# Altium schematic symbol library main board fo stk_1.SCHLIB: 87 symbols
Pins are listed as number, name and electrical type; pins without a type are passive.

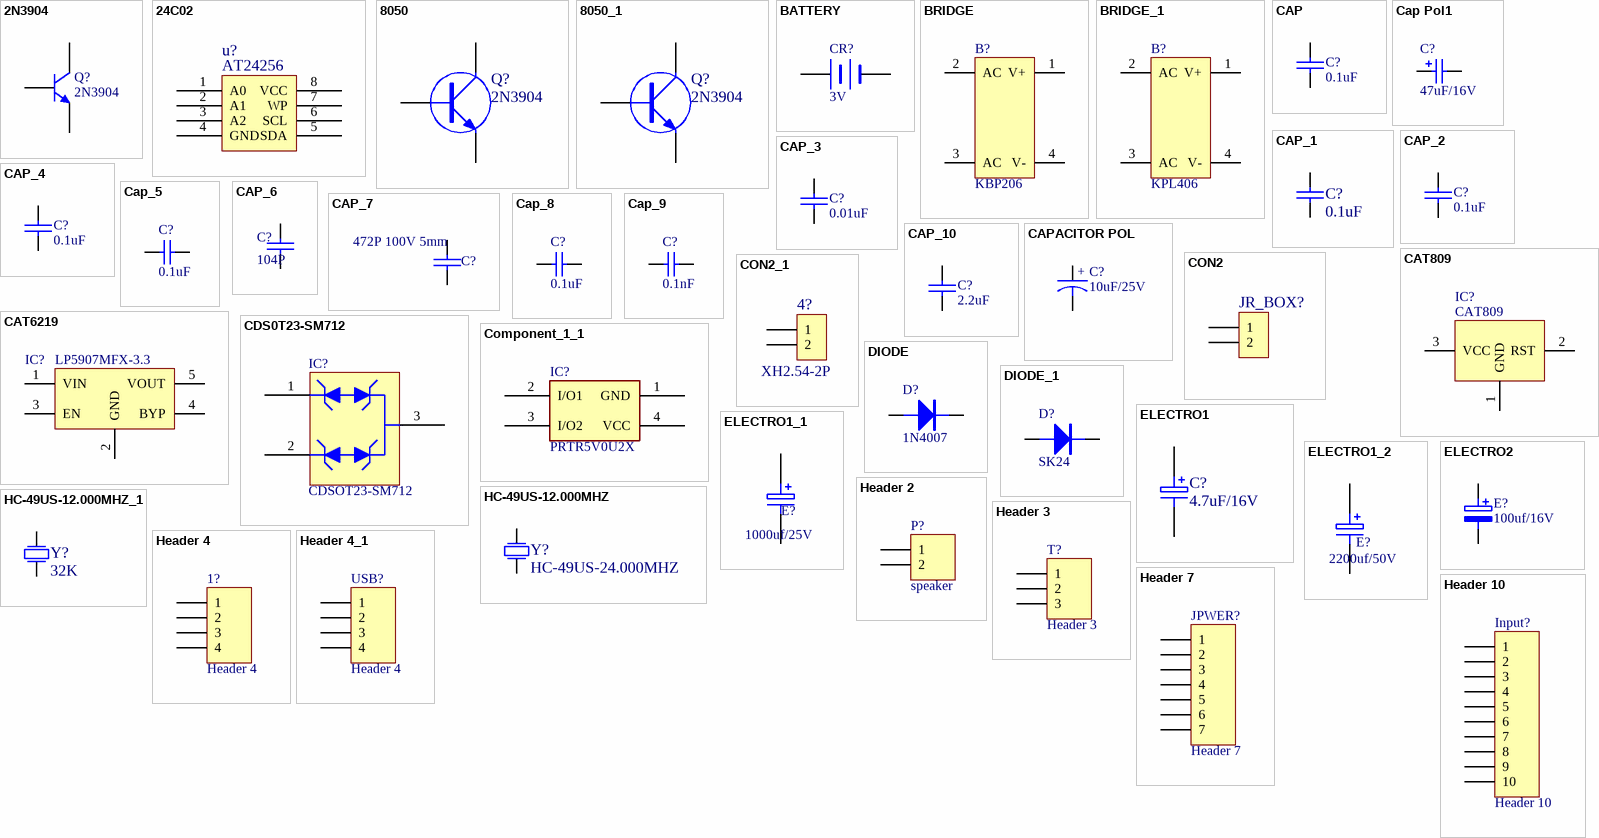
[diagram p0: symbols 2N3904 to Header 10]

## 2N3904
designator Q?
NPN General Purpose Amplifier; Published: 8-Jun-2000; LatestRevisionDate: 15-Jan-2003; LatestRevisionNote: PCB Footprint 'BCY-W3/D4.7' replaced; DatasheetVersion: 1997; PackageVersion: Sep-1998; PackageReference: TO-92A; Publisher: Altium Limited; PackageDescription: TO, Flat Index; 3 In-Line, Axial Leads; Body Dia. 4.5mm; Leads 0.51 x 0.48 mm (max); ComponentLink1Description: Manufacturer Link; ComponentLink1URL: http://www.fairchildsemi.com/; ComponentLink2Description: Datasheet; ComponentLink2URL: http://www.fairchildsemi.com/ds/2N%2F2N3904.pdf
simulation model 2N3904 (NPN)
signal-integrity model 2N3904
footprint SOT-23
pins: 1 B, 2 E, 3 C

## 24C02
designator u?, comment AT24256
footprint SO-8
pins: 1 A0, 2 A1, 3 A2, 4 GND, 5 SDA, 6 SCL, 7 WP, 8 VCC

## 8050
designator Q?, comment 2N3904
footprint TO92BB
footprint SOT-23
pins: 1 B, 2 E, 3 C

## 8050_1
designator Q?, comment 2N3904
footprint SOT-23
pins: 1 B, 2 E, 3 C

## BATTERY
designator CR?, comment 3V
Battery
footprint BATT
footprint BATT
pins: 1 +, 2 -
2 alternate drawings of the same symbol

## BRIDGE
designator B?, comment KBP206
Diode Bridge
footprint KBP206
pins: 1 V+, 2 AC, 3 AC, 4 V-

## BRIDGE_1
designator B?, comment KPL406
Diode Bridge
footprint KPL406
pins: 1 V+, 2 AC, 3 AC, 4 V-

## CAP
designator C?, comment 0.1uF
Capacitor
footprint 1206
footprint 0603C
pins: 1, 2

## Cap Pol1
designator C?, comment 47uF/16V
Tantalum Capacitor; Published: 8-Jun-2000; LatestRevisionDate: 17-Jul-2002; LatestRevisionNote: Re-released for DXP Platform.; PackageReference: RB7.6-15; Publisher: Altium Limited; PackageDescription: Polarized Capacitor (Radial); 2 Leads; Value: 47uF/16V
simulation model CAP (Capacitor)
signal-integrity model Cap Pol
footprint A3216
pins: 1, 2
1 alternate drawing of the same symbol

## CAP_1
designator C?, comment 0.1uF
Capacitor
footprint 1206
footprint 0603C
footprint 0603C
pins: 1, 2

## CAP_2
designator C?, comment 0.1uF
Capacitor
footprint 0805
footprint 0603C
pins: 1, 2
2 alternate drawings of the same symbol

## CAP_3
designator C?, comment 0.01uF
Capacitor
footprint RESC0603(1608)_M (Chip Resistor, Body 1.6x0.8mm, IPC Low Density)
footprint 0603C
pins: 1, 2

## CAP_4
designator C?, comment 0.1uF
Capacitor
footprint 0603C
pins: 1, 2

## Cap_5
designator C?, comment 0.1uF
Capacitor; Published: 8-Jun-2000; LatestRevisionDate: 17-Jul-2002; LatestRevisionNote: Re-released for DXP Platform.; PackageReference: RAD-0.3; Publisher: Altium Limited; PackageDescription: Radial Cap, Thru-Hole; 2 Leads; 0.3 in Pin Spacing; Value: 0.1uF
footprint RAD-0.3 (Radial Cap, Thru-Hole; 2 Leads; 0.3 in Pin Spacing)
simulation model CAP (Capacitor)
signal-integrity model Cap
footprint 0603C
pins: 1, 2

## CAP_6
designator C?, comment 104P
Capacitor; Value: 104P
footprint 0805C
pins: 1, 2

## CAP_7
designator C?, comment 472P 100V 5mm
CBB Capacitor; Value: 472P 100V 5mm
footprint RAD0.3
footprint RAD0.3
pins: 1, 2

## Cap_8
designator C?, comment 0.1uF
Capacitor; Published: 8-Jun-2000; LatestRevisionDate: 17-Jul-2002; LatestRevisionNote: Re-released for DXP Platform.; PackageReference: RAD-0.3; Publisher: Altium Limited; PackageDescription: Radial Cap, Thru-Hole; 2 Leads; 0.3 in Pin Spacing; Value: 0.1uF
footprint RAD-0.3 (Radial Cap, Thru-Hole; 2 Leads; 0.3 in Pin Spacing)
simulation model CAP (Capacitor)
signal-integrity model Cap
footprint 0603C
footprint 0603C
pins: 1, 2

## Cap_9
designator C?, comment 0.1nF
Capacitor; Published: 8-Jun-2000; LatestRevisionDate: 17-Jul-2002; LatestRevisionNote: Re-released for DXP Platform.; PackageReference: RAD-0.3; Publisher: Altium Limited; PackageDescription: Radial Cap, Thru-Hole; 2 Leads; 0.3 in Pin Spacing; Value: 0.1nF
simulation model CAP (Capacitor)
signal-integrity model Cap
footprint 0603C
pins: 1, 2

## CAP_10
designator C?, comment 2.2uF
Capacitor
footprint 0805
footprint 0603C
pins: 1, 2

## CAPACITOR POL
designator C?, comment 10uF/25V
Capacitor
footprint 3528
pins: 1, 2
2 alternate drawings of the same symbol
text: +

## CAT809
designator IC?
footprint SOT-23
pins: 1 GND, 2 RST, 3 VCC
2 alternate drawings of the same symbol

## CAT6219
designator IC?, comment LP5907MFX-3.3
Connector
footprint SOT-23-5
pins: 1 VIN, 2 GND, 3 EN, 4 BYP, 5 VOUT
2 alternate drawings of the same symbol

## CDS0T23-SM712
designator IC?, comment CDSOT23-SM712
footprint SOT23
pins: 1, 2, 3

## Component_1_1
designator IC?, comment PRTR5V0U2X
footprint SOT-143B
pins: 1 GND, 2 I/O1, 3 I/O2, 4 VCC
2 alternate drawings of the same symbol

## CON2
designator JR_BOX?
Connector
footprint 950-02V
footprint DG142V-5.08-2P
pins: 1, 2

## CON2_1
designator 4?, comment XH2.54-2P
Connector
footprint DG142V-5.08-2P
pins: 1, 2

## DIODE
designator D?, comment 1N4007
Diode
footprint DO-213AB
pins: 1 A, 2 K

## DIODE_1
designator D?, comment SK24
Diode
footprint 1N4001
pins: 1 A, 2 K

## ELECTRO1
designator C?, comment 4.7uF/16V
Electrolytic Capacitor
footprint 3528
pins: 1, 2

## ELECTRO1_1
designator E?, comment 1000uf/25V
Electrolytic Capacitor; Value: 1000uf/25V
footprint RB7.6-15 (Polarized Capacitor (Radial); 2 Leads)
pins: 1, 2

## ELECTRO1_2
designator E?, comment 2200uf/50V
Electrolytic Capacitor; Value: 2200uf/50V
footprint EC5.08-13.5
footprint RB7.6-15 (Polarized Capacitor (Radial); 2 Leads)
pins: 1, 2

## ELECTRO2
designator E?, comment 100uf/16V
Tantalum capacitor; Value: 100uf/16V
footprint E-BIP-P4/D10
footprint 3528
pins: 1, 2
2 alternate drawings of the same symbol

## HC-49US-12.000MHZ
designator Y?, comment HC-49US-24.000MHZ
Crystal Oscillator
simulation model HC-49US-12.000MHZ (SUBCKT)
footprint XTAL3
pins: 1 P1, 2 P2

## HC-49US-12.000MHZ_1
designator Y?, comment 32K
Crystal Oscillator
simulation model HC-49US-12.000MHZ (SUBCKT)
footprint XTAL6
pins: 1 P1, 2 P2

## Header 2
designator P?, comment speaker
Header, 2-Pin; LatestRevisionDate: 17-Jul-2002; LatestRevisionNote: Re-released for DXP Platform.; Publisher: Altium Limited
footprint XH2.54-2P
pins: 1, 2

## Header 3
designator T?
Header, 3-Pin; LatestRevisionDate: 17-Jul-2002; LatestRevisionNote: Re-released for DXP Platform.; Publisher: Altium Limited
footprint DG141V-2.54-3P
signal-integrity model Connector
pins: 1, 2, 3

## Header 4
designator 1?
Header, 4-Pin; LatestRevisionDate: 17-Jul-2002; LatestRevisionNote: Re-released for DXP Platform.; Publisher: Altium Limited
footprint HDR1X4 (Connector; Header; 4 Position)
signal-integrity model Connector
footprint XH2.54-4P
pins: 1, 2, 3, 4

## Header 4_1
designator USB?, comment Header 4
USB-A母口; LatestRevisionDate: 17-Jul-2002; LatestRevisionNote: Re-released for DXP Platform.; Publisher: Altium Limited
footprint HDR1X4 (Connector; Header; 4 Position)
signal-integrity model Connector
footprint F-USBA
pins: 1, 2, 3, 4

## Header 7
designator JPWER?
Header, 7-Pin; LatestRevisionDate: 17-Jul-2002; LatestRevisionNote: Re-released for DXP Platform.; Publisher: Altium Limited
footprint HDR1X7 (Connector; Header; 7 Position)
signal-integrity model Connector
pins: 1, 2, 3, 4, 5, 6, 7

## Header 10
designator Input?
Header, 10-Pin; LatestRevisionDate: 17-Jul-2002; LatestRevisionNote: Re-released for DXP Platform.; Publisher: Altium Limited
footprint DG142V-5.08-10P
signal-integrity model Connector
pins: 1, 2, 3, 4, 5, 6, 7, 8, 9, 10

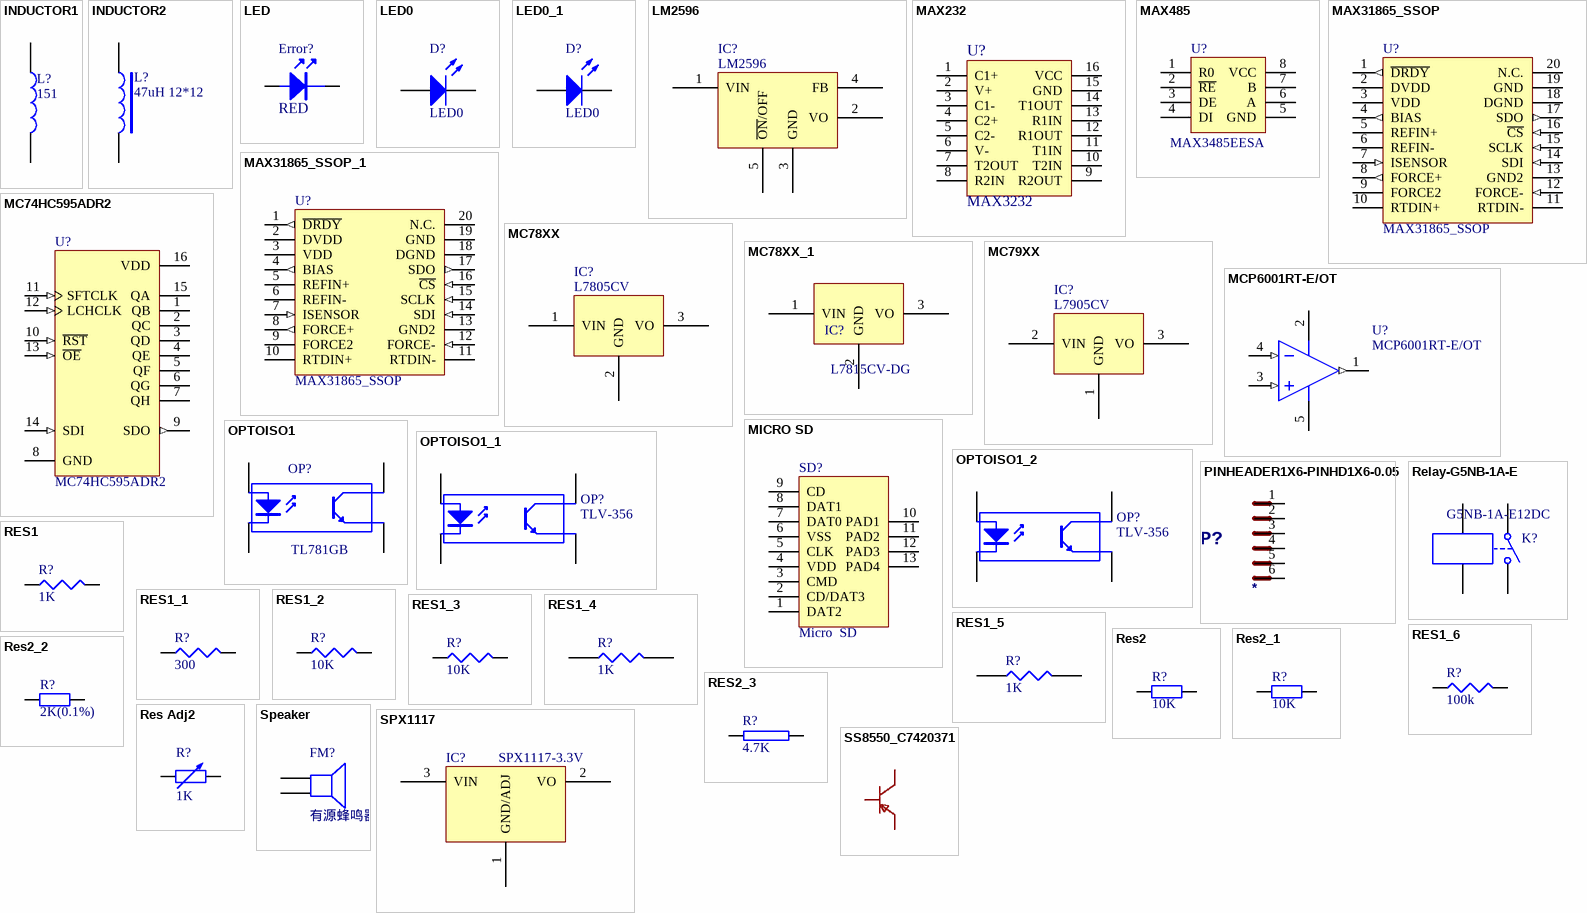
[diagram p1: symbols INDUCTOR1 to SS8550_C7420371]

## INDUCTOR1
designator L?, comment 151
footprint 3528
pins: 1, 2

## INDUCTOR2
designator L?  value 47uH 12*12  (hidden comment: INDUCTOR2)
贴片功率电感
footprint L47UH
pins: 1, 2

## LED
designator Error?, comment RED
footprint SMDLED
pins: A 1, K 2

## LED0
designator D?
Typical INFRARED GaAs LED; Published: 8-Jun-2000; LatestRevisionDate: 08-Jul-2005; LatestRevisionNote: Mech Layer 1 removed.; PackageReference: LED-0; Publisher: Altium Limited; PackageDescription: LED; 2 Leads
footprint LED-0 (LED; 2 Leads)
simulation model LED0 (Diode)
footprint D0805 (1/8W)
footprint D0603
pins: 1 A, 2 K

## LED0_1
designator D?, comment LED0
Typical INFRARED GaAs LED; Published: 8-Jun-2000; LatestRevisionDate: 08-Jul-2005; LatestRevisionNote: Mech Layer 1 removed.; PackageReference: LED-0; Publisher: Altium Limited; PackageDescription: LED; 2 Leads
footprint LED-0 (LED; 2 Leads)
simulation model LED0 (Diode)
footprint D0805 (1/8W)
pins: 1 A, 2 K

## LM2596
designator IC?
footprint LM2596
pins: 1 VIN, 2 VO, 3 GND, 4 FB, 5 ~{ON}/OFF

## MAX232
designator U?, comment MAX3232
footprint DIP-16
footprint SO16
pins: 1 C1+, 2 V+, 3 C1-, 4 C2+, 5 C2-, 6 V-, 7 T2OUT, 8 R2IN, 9 R2OUT, 10 T2IN, 11 T1IN, 12 R1OUT, 13 R1IN, 14 T1OUT, 15 GND, 16 VCC

## MAX485
designator U?, comment MAX3485EESA
footprint SO-8
pins: 1 R0, 2 ~{RE}, 3 DE, 4 DI, 5 GND, 6 A, 7 B, 8 VCC

## MAX31865_SSOP
designator U?
footprint SSOP20 (SSOP; 20 Leads; Body Width 5.3 mm; Pitch 0.65 mm)
pins: 1 ~{DRDY} (out), 2 DVDD, 3 VDD, 4 BIAS (out), 5 REFIN+, 6 REFIN-, 7 ISENSOR (in), 8 FORCE+ (out), 9 FORCE2, 10 RTDIN+, 11 RTDIN-, 12 FORCE- (in), 13 GND2, 14 SDI (in), 15 SCLK (in), 16 ~{CS} (in), 17 SDO (out), 18 DGND, 19 GND, 20 N.C.

## MAX31865_SSOP_1
designator U?, comment MAX31865_SSOP
footprint SOT-5LEAD
footprint SSOP20
pins: 1 ~{DRDY} (out), 2 DVDD, 3 VDD, 4 BIAS (out), 5 REFIN+, 6 REFIN-, 7 ISENSOR (in), 8 FORCE+ (out), 9 FORCE2, 10 RTDIN+, 11 RTDIN-, 12 FORCE- (in), 13 GND2, 14 SDI (in), 15 SCLK (in), 16 ~{CS} (in), 17 SDO (out), 18 DGND, 19 GND, 20 N.C.

## MC74HC595ADR2
designator U?
8-Bit Serial-Input/Serial or Prallel-Output Shift Register with Latched 3-State Outputs; Published: 15-Apr-2002; LatestRevisionDate: 13-Apr-2006; LatestRevisionNote: IPC-7351 Footprint Added.; DatasheetVersion: Mar-2000; PackageVersion: Oct-1999; PackageReference: 751B-05; Publisher: Altium Limited; PackageDescription: 16-Pin Small Outline Integrated Circuit 1.27 mm Pitch; Code_JEDEC: MS-012-AC; Code_IPC: SOIC127P600-16; ComponentLink1Description: Manufacturer Link; ComponentLink1URL: http://www.onsemi.com/; ComponentLink2Description: Datasheet; ComponentLink2URL: http://www.onsemi.com/pub/Collateral/MC74HC595A-D.PDF
footprint 751B-05_N (SOIC, 16-Leads, Body 9.9x3.9mm, Pitch 1.27mm, IPC Medium Density)
footprint 751B-05_L (SOIC, 16-Leads, Body 9.9x3.9mm, Pitch 1.27mm, IPC High Density)
footprint 751B-05_M (SOIC, 16-Leads, Body 9.9x3.9mm, Pitch 1.27mm, IPC Low Density)
signal-integrity model MC74HC595ADR2
pins: 1 QB (hiz), 2 QC (hiz), 3 QD (hiz), 4 QE (hiz), 5 QF (hiz), 6 QG (hiz), 7 QH (hiz), 8 GND (power), 9 SDO (out), 10 ~{RST} (in), 11 SFTCLK (in), 12 LCHCLK (in), 13 ~{OE} (in), 14 SDI (in), 15 QA (hiz), 16 VDD (power)

## MC78XX
designator IC?, comment L7805CV
footprint L7805CV
pins: 1 VIN, 2 GND, 3 VO

## MC78XX_1
designator IC?, comment L7815CV-DG
footprint L7815CV-DG
pins: 1 VIN, 2 GND, 3 VO

## MC79XX
designator IC?, comment L7905CV
footprint L7905CV
pins: 1 GND, 2 VIN, 3 VO

## MCP6001RT-E/OT
designator U?
1 MHz, Low-Power Operational Amplifier, 5-Pin SOT-23, Extended Temperature, Tape and Reel; FirstPublished: 29-Jan-2009; LatestRevisionDate: 02-Dec-2009; LatestRevisionNote: Updated to datasheet revision J, Nov-2009; DatasheetVersion: revJ, Nov-2009; PackageVersion: revBB, Aug-2009; PackageReference: SOT-23-OT5; Publisher: Altium Limited; PackageDescription: 5-Lead Plastic Small Outline Transistor (OT) [SOT-23]; Supplier 1: Digi-Key; Supplier Part Number 1: MCP6001RT-E/OTTR-ND; Supplier 2: Digi-Key; Supplier Part Number 2: MCP6001RT-E/OTCT-ND; Supplier 3: Digi-Key; Supplier Part Number 3: MCP6001RT-E/OTDKR-ND; Supplier 4: Newark; Supplier Part Number 4: 88H9850; Code_IPC: SOT23-5; ComponentLink1Description: Datasheet; ComponentLink1URL: http://ww1.microchip.com/downloads/en/DeviceDoc/21733j.pdf; ComponentLink2Description: Packaging Specification; ComponentLink2URL: http://www.microchip.com/stellent/groups/techpub_sg/documents/packagingspec/en012702.pdf; ComponentLink3Description: Microchip.com Home; ComponentLink3URL: http://www.microchip.com/
footprint SOT-23-OT5_N (SOT23, 5-Leads, Body 2.9x1.6mm, Pitch 0.95mm, Lead Span 2.7mm, IPC Medium Density)
footprint SOT-23-OT5_L (SOT23, 5-Leads, Body 2.9x1.6mm, Pitch 0.95mm, Lead Span 2.7mm, IPC High Density)
footprint SOT-23-OT5_M (SOT23, 5-Leads, Body 2.9x1.6mm, Pitch 0.95mm, Lead Span 2.7mm, IPC Low Density)
pins: 1 VOUT (out), 2 VDD (power), 3 VIN+ (in), 4 VIN- (in), 5 VSS (power)

## MICRO SD
designator SD?, comment Micro  SD
footprint MICRO SD
pins: 1 DAT2, 2 CD/DAT3, 3 CMD, 4 VDD, 5 CLK, 6 VSS, 7 DAT0, 8 DAT1, 9 CD, 10 PAD1, 11 PAD2, 12 PAD3, 13 PAD4
2 alternate drawings of the same symbol

## OPTOISO1
designator OP?, comment TL781GB
Optoisolator
footprint EL-817
footprint TLV-356
pins: 1 A, 2 K, 3 E, 4 C

## OPTOISO1_1
designator OP?, comment TLV-356
Optoisolator
footprint DIP-4
footprint EL-817
footprint TLV-356
pins: 1 A, 2 K, 3 E, 4 C

## OPTOISO1_2
designator OP?, comment TLV-356
Optoisolator
footprint DIP-4
footprint TLV-356
pins: 1 A, 2 K, 3 E, 4 C

## PINHEADER1X6-PINHD1X6-0.05
designator P?  (value not drawn)
Pinheader 1x6; NAME: *
footprint XH2.54-6P
pins: 1, 2, 3, 4, 5, 6

## Relay-G5NB-1A-E
designator K?, comment G5NB-1A-E12DC
Single-Pole Single-Throw Relay; Published: 24-Mar-1999; LatestRevisionDate: 17-Jul-2002; LatestRevisionNote: Re-released for DXP Platform.; PackageReference: MODULE4; Publisher: Altium Limited
simulation model SPSTRELAY (Spice Subcircuit)
footprint JQC-3FF
footprint G5NB-1A-E
pins: 1, 2, 3, 4

## RES1
designator R?, comment 1K
footprint 1206
footprint 0603R
pins: 1, 2

## RES1_1
designator R?, comment 300
footprint 1206
footprint 0805R
pins: 1, 2

## RES1_2
designator R?, comment 10K
footprint 0805
footprint 0603C
footprint 0603R
pins: 1, 2
2 alternate drawings of the same symbol

## RES1_3
designator R?, comment 10K
footprint 0603R
pins: 1, 2

## RES1_4
designator R?, comment 1K
footprint RESC0603(1608)_M (Chip Resistor, Body 1.6x0.8mm, IPC Low Density)
footprint 0603R
pins: 1, 2

## RES1_5
designator R?, comment 1K
footprint 0603R
pins: 1, 2

## RES1_6
designator R?, comment 100k
footprint CAPC0603(1608)100_M
footprint 0603R
pins: 1, 2

## Res2
designator R?, comment 10K
Resistor; Published: 8-Jun-2000; LatestRevisionDate: 17-Jul-2002; LatestRevisionNote: Re-released for DXP Platform.; PackageReference: AXIAL-0.4; Publisher: Altium Limited; PackageDescription: Axial Device, Thru-Hole; 2 Leads; 0.4 in Pin Spacing; Value: 10K
simulation model RESISTOR (Resistor)
signal-integrity model Res
footprint R1/4-H
footprint 0603R
pins: 1, 2

## Res2_1
designator R?, comment 10K
Resistor; Published: 8-Jun-2000; LatestRevisionDate: 17-Jul-2002; LatestRevisionNote: Re-released for DXP Platform.; PackageReference: AXIAL-0.4; Publisher: Altium Limited; PackageDescription: Axial Device, Thru-Hole; 2 Leads; 0.4 in Pin Spacing; Value: 10K
footprint AXIAL-0.4 (Axial Device, Thru-Hole; 2 Leads; 0.4 in Pin Spacing)
simulation model RESISTOR (Resistor)
signal-integrity model Res
footprint R0603 (1/10W)
footprint 0603R
pins: 1, 2

## Res2_2
designator R?, comment 2K(0.1%)
Resistor; Published: 8-Jun-2000; LatestRevisionDate: 17-Jul-2002; LatestRevisionNote: Re-released for DXP Platform.; PackageReference: AXIAL-0.4; Publisher: Altium Limited; Value: 2K(0.1%)
footprint AXIAL-0.4 (Resistor; 2 Leads)
simulation model RESISTOR (Resistor)
signal-integrity model Res
footprint 0603R
pins: 1, 2

## RES2_3
designator R?, comment 4.7K
footprint 0805R
pins: 1, 2

## Res Adj2
designator R?, comment 1K
DG141V-2.54-2P; Set Position: 0.5; Published: 8-Jun-2000; LatestRevisionDate: 17-Jul-2002; LatestRevisionNote: Re-released for DXP Platform.; PackageReference: AXIAL-0.6; Publisher: Altium Limited; PackageDescription: Axial Device, Thru-Hole; 2 Leads; 0.6 in Pin Spacing; Value: 1K
simulation model VRES (Variable Resistor)
signal-integrity model Res Adj
footprint XH2.54-2P
pins: 1, 2

## Speaker
designator FM?, comment 有源蜂鸣器
Loudspeaker; value: 3.3V 12*9.5; Published: *; Manufacturer: *
footprint SPK
footprint SPK
pins: 1, 2
2 alternate drawings of the same symbol

## SPX1117
designator IC?, comment SPX1117-3.3V
footprint SOT223
pins: 1 GND/ADJ, 2 VO, 3 VIN

## SS8550_C7420371
designator Q??, comment SS8550  (value not drawn)
Manufacturer: 宏迦橙; Symbol: SS8550_C7420371; Add into BOM: yes; Transistor Type: PNP; Collector Current (Ic): 1.5A; Collector-Emitter Breakdown Voltage (Vceo): 25V; Power Dissipation (Pd): 300mW; DC Current Gain (hFE@Ic,Vce): 120@100mA,1.0V; Transition Frequency (fT): 100MHz; Collector Cut-Off Current (Icbo): 100nA; Collector-Emitter Saturation Voltage (VCE(sat)@Ic,Ib): 500mV@800mA,80mA; Device: SS8550_C7420371; LCSC Part Name: 耐压:25V 电流:1.5A PNP H档 200-350; Supplier Part: C7420371; Manufacturer Part: SS8550; Supplier Footprint: SOT-23; JLCPCB Part Class: Extended Part; Datasheet: https://atta.szlcsc.com/upload/public/pdf/source/20231222/5BDA6DBF3A79C59009F81F0EEE6F8969.pdf; Supplier: LCSC; Convert to PCB: yes; Operating Temperature: -55℃~+150℃
footprint SOT23
3D model SOT-23-3P_L2.9-W1.3-H1.0-LS2.4-P0.95
pins: 1 B, 2 E, 3 C

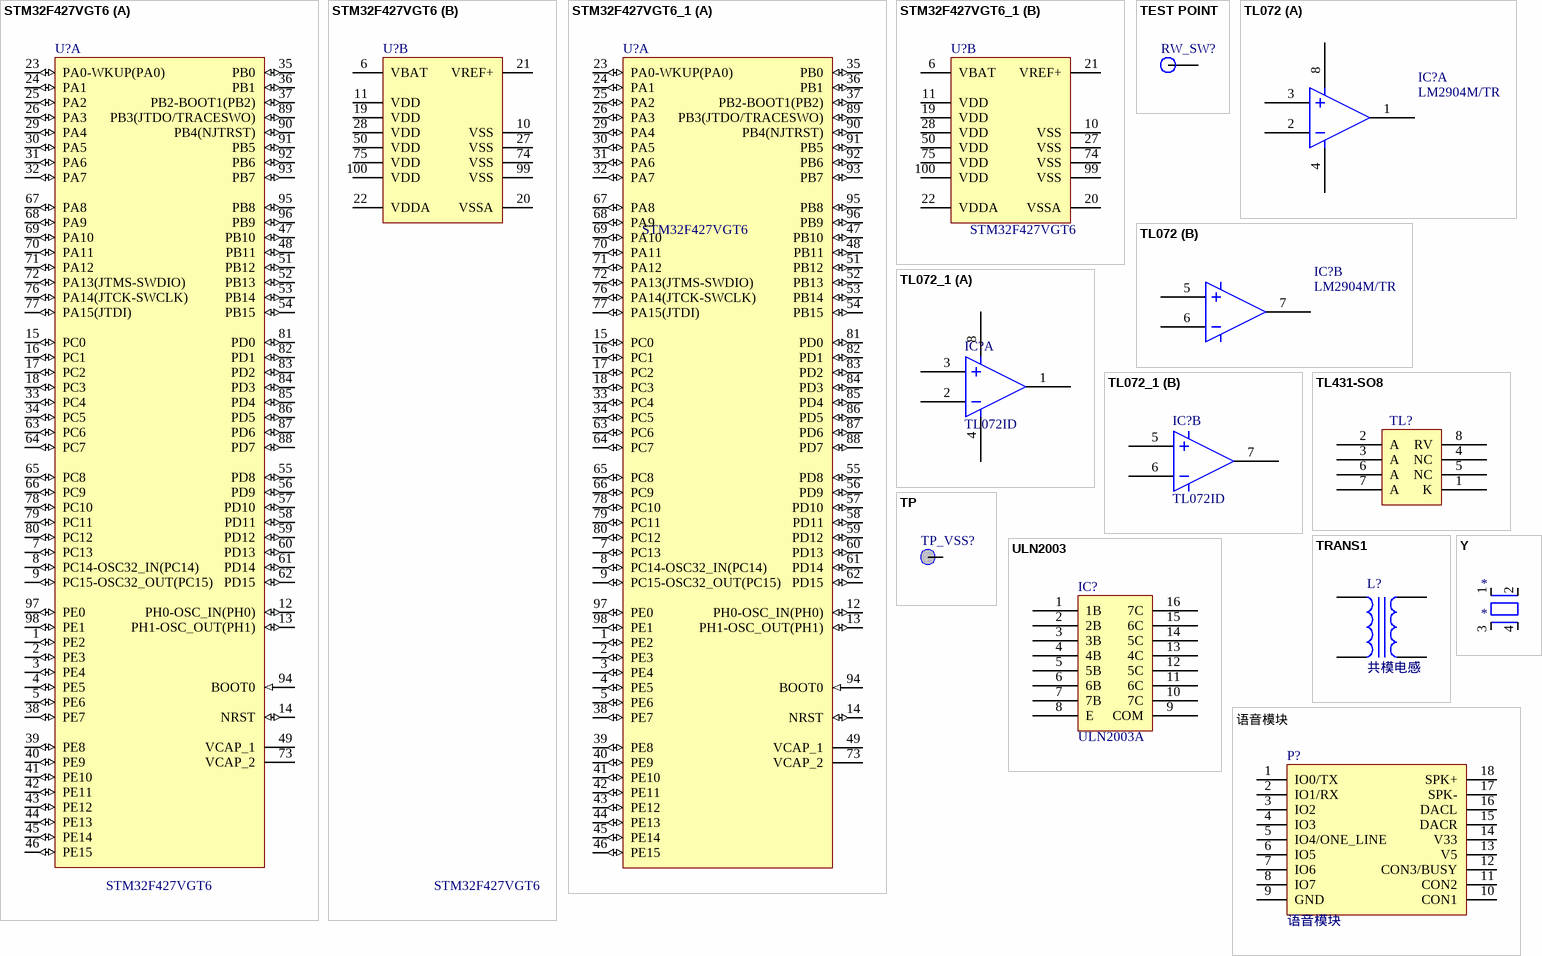
[diagram p2: symbols STM32F427VGT6 to 语音模块]

## STM32F427VGT6
designator U?
ARM Cortex-M4 32-bit MCU+FPU, 210 DMIPS, 1024 kB Flash, 256 kB Internal RAM, 82 I/Os, 100-pin LQFP, -40 to 85 degC, Tray; Manufacturer: STMicroelectronics; D/A Converter: 2x12-bit; FLASH Size (Prog) (kB): 1024; I/Os (High Current): 82; Internal RAM Size (kB): 256; Operating Frequency(F) (Processor speed) (MHz): 168; Supply Voltage(Vcc) max (V): 3.6; Supply Voltage(Vcc) min (V): 1.8; DatasheetVersion: Rev. 1; PackageVersion: Rev. 1, 06/2013; PackageReference: LQFP100; PackageDescription: 100-Pin Low Profile Quad Flat Package, 14 x 14 mm Body, 0.5 mm Pitch; Supplier 1: Digi-Key; Supplier Part Number 1: STM32F427VGT6-ND; Supplier 2: Farnell; Supplier Part Number 2: 2333368; Supplier 3: Newark; Supplier Part Number 3: 99W9926; Supplier 4: Newark; Supplier Part Number 4: 66W7311; Supplier 5: Mouser; Supplier Part Number 5: 511-STM32F427VGT6; Core: ARM Cortex-M4; Packing: Tray; Mounting Technology: Surface Mount; PartNumber: STM32F427VGT6; ComponentLink1Description: Manufacturer URL; ComponentLink1URL: http://www.st.com/web/en/home.html; ComponentLink2Description: Datasheet; ComponentLink2URL: http://www.st.com/st-web-ui/static/active/en/resource/technical/document/datasheet/DM00071990.pdf; ComponentLink3Description: Package Specification; ComponentLink3URL: http://www.st.com/st-web-ui/static/active/en/resource/technical/document/data_brief/DM00071938.pdf
footprint STM-LQFP100_N (Thin QFP, 100-Leads, Body 14x14mm, Pitch 0.5mm, IPC Medium Density)
footprint STM-LQFP100_L (Thin QFP, 100-Leads, Body 14x14mm, Pitch 0.5mm, IPC High Density)
footprint STM-LQFP100_M (Thin QFP, 100-Leads, Body 14x14mm, Pitch 0.5mm, IPC Low Density)
footprint STM-LQFP100_N (Thin QFP, 100-Leads, Body 14x14mm, Pitch 0.5mm, IPC Medium Density)
part A pins: 1 PE2 (io) "PE2/TRACECLK,FSMC_A23,ETH_MII_TXD3,EVENTOUT,SPI4_SCK", 2 PE3 (io) "PE3/TRACED0,FSMC_A19,EVENTOUT,SPI4_NSS", 3 PE4 (io) "PE4/TRACED1,FSMC_A20,DCMI_D4,EVENTOUT,SPI4_NSS", 4 PE5 (io) "PE5/TRACED2,FSMC_A21,TIM9_CH1,DCMI_D6,EVENTOUT,SPI4_MISO", 5 PE6 (io) "PE6/TRACED3,FSMC_A22,TIM9_CH2,DCMI_D7,EVENTOUT,SPI4_MOSI", 7 PC13 (io) "PC13/EVENTOUT/RTC_OUT,RTC_TAMP1,RTC_TS", 8 PC14-OSC32_IN(PC14) (io) "PC14-OSC32_IN(PC14)/EVENTOUT/OSC32_IN", 9 PC15-OSC32_OUT(PC15) (io) "PC15-OSC32_OUT(PC15)/EVENTOUT/OSC32_OUT", 12 PH0-OSC_IN(PH0) (io) "PH0-OSC_IN(PH0)/EVENTOUT/OSC_IN", 13 PH1-OSC_OUT(PH1) (io) "PH1-OSC_OUT(PH1)/EVENTOUT/OSC_OUT", 14 NRST (io), 15 PC0 (io) "PC0/OTG_HS_ULPI_STP,EVENTOUT/ADC123_IN10", 16 PC1 (io) "PC1/ETH_MDC,EVENTOUT/ADC123_IN11", 17 PC2 (io) "PC2/SPI2_MISO,OTG_HS_ULPI_DIR,ETH_MII_TXD2,I2S2ext_SD,EVENTOUT/ADC123_IN12", 18 PC3 (io) "PC3/SPI2_MOSI/I2S2_SD,OTG_HS_ULPI_NXT,ETH_MII_TX_CLK,EVENTOUT/ADC123_IN13", 23 PA0-WKUP(PA0) (io) "PA0-WKUP(PA0)/USART2_CTS,UART4_TX,ETH_MII_CRS,TIM2_CH1_ETR,TIM5_CH1,TIM8_ETR,EVENTOUT/ADC123_IN0,WKUP", 24 PA1 (io) "PA1/USART2_RTS,UART4_RX,ETH_RMII_REF_CLK,ETH_MII_RX_CLK,TIM5_CH2,TIMM2_CH2,EVENTOUT/ADC123_IN1", 25 PA2 (io) "PA2/USART2_TX,TIM5_CH3,TIM9_CH1,TIM2_CH3,ETH_MDIO,EVENTOUT/ADC123_IN2", 26 PA3 (io) "PA3/USART2_RX,TIM5_CH4,TIM9_CH2,TIM2_CH4,OTG_HS_ULPI_D0,ETH_MII_COL,EVENTOUT/ADC123_IN3", 29 PA4 (io) "PA4/SPI1_NSS,SPI3_NSS,USART2_CK,DCMI_HSYNC,OTG_HS_SOF,I2S3_WS,EVENTOUT/ADC12_IN4,DAC1_OUT", 30 PA5 (io) "PA5/SPI1_SCK,OTG_HS_ULPI_CK,TIM2_CH1_ETR,TIM8_CH1N,EVENTOUT/ADC12_IN5,DAC2_OUT", 31 PA6 (io) "PA6/SPI1_MISO,TIM8_BKIN,TIM13_CH1,DCMI_PIXCLK,TIM3_CH1,TIM1_BKIN,EVENTOUT/ADC12_IN6", 32 PA7 (io) "PA7/SPI1_MOSI,TIM8_CH1N,TIM14_CH1,TIM3_CH2,ETH_MII_RX_DV,TIM1_CH1N,ETH_RMII_CRS_DV,EVENTOUT/ADC12_IN7", 33 PC4 (io) "PC4/ETH_RMII_RX_D0,ETH_MII_RX_D0,EVENTOUT/ADC12_IN14", 34 PC5 (io) "PC5/ETH_RMII_RX_D1,ETH_MII_RX_D1,EVENTOUT/ADC12_IN15", 35 PB0 (io) "PB0/TIM3_CH3,TIM8_CH2N,OTG_HS_ULPI_D1,ETH_MII_RXD2,TIM1_CH2N,EVENTOUT/ADC12_IN8", 36 PB1 (io) "PB1/TIM3_CH4,TIM8_CH3N,OTG_HS_ULPI_D2,ETH_MII_RXD3,TIM1_CH3N,EVENTOUT/ADC12_IN9", 37 PB2-BOOT1(PB2) (io) "PB2-BOOT1(PB2)/EVENTOUT", 38 PE7 (io) "PE7/FSMC_D4,TIM1_ETR,EVENTOUT,UART7_RX", 39 PE8 (io) "PE8/FSMC_D5,TIM1_CH1N,EVENTOUT,UART7_TX", 40 PE9 (io) "PE9/FSMC_D6,TIM1_CH1,EVENTOUT", 41 PE10 (io) "PE10/FSMC_D7,TIM1_CH2N,EVENTOUT", 42 PE11 (io) "PE11/FSMC_D8,TIM1_CH2,EVENTOUT,SPI4_NSS", 43 PE12 (io) "PE12/FSMC_D9,TIM1_CH3N,EVENTOUT,SPI4_SCK", 44 PE13 (io) "PE13/FSMC_D10,TIM1_CH3,EVENTOUT,SPI4_MISO", 45 PE14 (io) "PE14/FSMC_D11,TIM1_CH4,EVENTOUT,SPI4_MOSI", 46 PE15 (io) "PE15/FSMC_D12,TIM1_BKIN,EVENTOUT", 47 PB10 (io) "PB10/SPI2_SCK/I2S2_CK,I2C2_SCL,USART3_TX,OTG_HS_ULPI_D3,ETH_MII_RX_ER,TIM2_CH3,EVENTOUT", 48 PB11 (io) "PB11/I2C2_SDA,USART3_RX,OTG_HS_ULPI_D4,ETH_RMII_TX_EN,ETH_MII_TX_EN,TIM2_CH4,EVENTOUT", 49 VCAP_1 (power), 51 PB12 (io) "PB12/SPI2_NSS/I2S2_WS,I2C2_SMBA,USART3_CK,TIM1_BKIN,CAN2_RX,OTG_HS_ULPI_D5,ETH_RMII_TXD0,ETH_MII_TXD0,OTG_HS_ID,EVENTOUT", 52 PB13 (io) "PB13/SPI2_SCK/I2S2_CK,USART3_CTS,TIM1_CH1N,CAN2_TX,OTG_HS_ULPI_D6,ETH_RMII_TXD1,ETH_MII_TXD1,EVENTOUT/OTG_HS_VBUS", 53 PB14 (io) "PB14/SPI2_MISO,TIM1_CH2N,TIM12_CH1,OTG_HS_DM,USART3_RTS,TIM8_CH2N,I2S2ext_SD,EVENTOUT", 54 PB15 (io) "PB15/SPI2_MOSI/I2S2_SD,TIM1_CH3N,TIM8_CH3N,TIM12_CH2,OTG_HS_DP,EVENTOUT,RTC_REFIN", 55 PD8 (io) "PD8/FSMC_D13,USART3_TX,EVENTOUT", 56 PD9 (io) "PD9/FSMC_D14,USART3_RX,EVENTOUT", 57 PD10 (io) "PD10/FSMC_D15,USART3_CK,EVENTOUT", 58 PD11 (io) "PD11/FSMC_CLE,FSMC_A16,USART3_CTS,EVENTOUT", 59 PD12 (io) "PD12/FSMC_ALE,FSMC_A17,TIM4_CH1,USART3_RTS,EVENTOUT", 60 PD13 (io) "PD13/FSMC_A18,TIM4_CH2,EVENTOUT", 61 PD14 (io) "PD14/FSMC_D0,TIM4_CH3,EVENTOUT", 62 PD15 (io) "PD15/FSMC_D1,TIM4_CH4,EVENTOUT", 63 PC6 (io) "PC6/I2S2_MCK,TIM8_CH1,SDIO_D6,USART6_TX,DCMI_D0,TIM3_CH1,EVENTOUT", 64 PC7 (io) "PC7/I2S3_MCK,TIM8_CH2,SDIO_D7,USART6_RX,DCMI_D1,TIM3_CH2,EVENTOUT", 65 PC8 (io) "PC8/TIM8_CH3,SDIO_D0,TIM3_CH3,USART6_CK,DCMI_D2,EVENTOUT", 66 PC9 (io) "PC9/I2S_CKIN,MCO2,TIM8_CH4,SDIO_D1,I2C3_SDA,DCMI_D3,TIM3_CH4,EVENTOUT", 67 PA8 (io) "PA8/MCO1,USART1_CK,TIM1_CH1,I2C3_SCL,OTG_FS_SOF,EVENTOUT", 68 PA9 (io) "PA9/USART1_TX,TIM1_CH2,I2C3_SMBA,DCMI_D0,EVENTOUT/OTG_FS_VBUS", 69 PA10 (io) "PA10/USART1_RX,TIM1_CH3,OTG_FS_ID,DCMI_D1,EVENTOUT", 70 PA11 (io) "PA11/USART1_CTS,CAN1_RX,TIM1_CH4,OTG_FS_DM,EVENTOUT", 71 PA12 (io) "PA12/USART1_RTS,CAN1_TX,TIM1_ETR,OTG_FS_DP,EVENTOUT", 72 PA13(JTMS-SWDIO) (io) "PA13(JTMS-SWDIO)/JTMS-SWDIO,EVENTOUT", 73 VCAP_2 (power), 76 PA14(JTCK-SWCLK) (io) "PA14(JTCK-SWCLK)/JTCK-SWCLK,EVENTOUT", 77 PA15(JTDI) (io) "PA15(JTDI)/JTDI,SPI3_NSS,I2S3_WS,TIM2_CH1_ETR,SPI1_NSS,EVENTOUT", 78 PC10 (io) "PC10/SPI3_SCK/I2S3_CK,UART4_TX,SDIO_D2,DCMI_D8,USART3_TX,EVENTOUT", 79 PC11 (io) "PC11/UART4_RX,SPI3_MISO,SDIO_D3,DCMI_D4,USART3_RX,I2S3ext_SD,EVENTOUT", 80 PC12 (io) "PC12/UART5_TX,SDIO_CK,DCMI_D9,SPI3_MOSI,I2S3_SD,USART3_CK,EVENTOUT", 81 PD0 (io) "PD0/FSMC_D2,CAN1_RX,EVENTOUT", 82 PD1 (io) "PD1/FSMC_D3,CAN1_TX,EVENTOUT", 83 PD2 (io) "PD2/TIM3_ETR,UART5_RX,SDIO_CMD,DCMI_D11,EVENTOUT", 84 PD3 (io) "PD3/FSMC_CLK,USART2_CTS,EVENTOUT,SPI2_SCK,I2S2_CK,DCMI_D5", 85 PD4 (io) "PD4/FSMC_NOE,USART2_RTS,EVENTOUT", 86 PD5 (io) "PD5/FSMC_NWE,USART2_TX,EVENTOUT", 87 PD6 (io) "PD6/FSMC_NWAIT,USART2_RX,EVENTOUT,SPI3_MOSI,I2S3_MOSI,DCMI_D10", 88 PD7 (io) "PD7/USART2_CK,FSMC_NE1,FSMC_NCE2,EVENTOUT", 89 PB3(JTDO/TRACESWO) (io) "PB3(JTDO/TRACESWO)/JTDO/TRACESWO,SPI3_SCK/I2S3_CK,TIM2_CH2,SPI1_SCK,EVENTOUT", 90 PB4(NJTRST) (io) "PB4(NJTRST)/NJTRST,SPI3_MISO,TIM3_CH1,SPI1_MISO,I2S3ext_SD,EVENTOUT", 91 PB5 (io) "PB5/I2C1_SMBA,CAN2_RX,OTG_HS_ULPI_D7,ETH_PPS_OUT,TIM3_CH2,SPI1_MOSI,SPI3_MOSI,DCMI_D10,I2S3_SD,EVENTOUT", 92 PB6 (io) "PB6/I2C1_SCL,TIM4_CH1,CAN2_TX,DCMI_D5,USART1_TX,EVENTOUT", 93 PB7 (io) "PB7/I2C1_SDA,FSMC_NL(NADV),DCMI_VSYNC,USART1_RX,TIM4_CH2,EVENTOUT", 94 BOOT0 (in) "BOOT0/VPP", 95 PB8 (io) "PB8/TIM4_CH3,SDIO_D4,TIM10_CH1,DCMI_D6,ETH_MII_TXD3,I2C1_SCL,CAN1_RX,EVENTOUT", 96 PB9 (io) "PB9/SPI2_NSS/I2S2_WS,TIM4_CH4,TIM11_CH1,SDIO_D5,DCMI_D7,I2C1_SDA,CAN1_TX,EVENTOUT", 97 PE0 (io) "PE0/TIM4_ETR,FSMC_NBL0,DCMI_D2,EVENTOUT,UART8_RX", 98 PE1 (io) "PE1/FSMC_NBL1,DCMI_D3,EVENTOUT,UART8_TX"
part B pins: 6 VBAT (power), 10 VSS (power), 11 VDD (power), 19 VDD (power), 20 VSSA (power), 21 VREF+ (power), 22 VDDA (power), 27 VSS (power), 28 VDD (power), 50 VDD (power), 74 VSS (power), 75 VDD (power), 99 VSS (power), 100 VDD (power)

## STM32F427VGT6_1
designator U?, comment STM32F427VGT6
ARM Cortex-M4 32-bit MCU+FPU, 210 DMIPS, 1024 kB Flash, 256 kB Internal RAM, 82 I/Os, 100-pin LQFP, -40 to 85 degC, Tray; Manufacturer: STMicroelectronics; D/A Converter: 2x12-bit; FLASH Size (Prog) (kB): 1024; I/Os (High Current): 82; Internal RAM Size (kB): 256; Operating Frequency(F) (Processor speed) (MHz): 168; Supply Voltage(Vcc) max (V): 3.6; Supply Voltage(Vcc) min (V): 1.8; DatasheetVersion: Rev. 1; PackageVersion: Rev. 1, 06/2013; PackageReference: LQFP100; PackageDescription: 100-Pin Low Profile Quad Flat Package, 14 x 14 mm Body, 0.5 mm Pitch; Supplier 1: Digi-Key; Supplier Part Number 1: STM32F427VGT6-ND; Supplier 2: Farnell; Supplier Part Number 2: 2333368; Supplier 3: Newark; Supplier Part Number 3: 99W9926; Supplier 4: Newark; Supplier Part Number 4: 66W7311; Supplier 5: Mouser; Supplier Part Number 5: 511-STM32F427VGT6; Core: ARM Cortex-M4; Packing: Tray; Mounting Technology: Surface Mount; PartNumber: STM32F427VGT6; ComponentLink1Description: Manufacturer URL; ComponentLink1URL: http://www.st.com/web/en/home.html; ComponentLink2Description: Datasheet; ComponentLink2URL: http://www.st.com/st-web-ui/static/active/en/resource/technical/document/datasheet/DM00071990.pdf; ComponentLink3Description: Package Specification; ComponentLink3URL: http://www.st.com/st-web-ui/static/active/en/resource/technical/document/data_brief/DM00071938.pdf
footprint STM-LQFP100_N (Thin QFP, 100-Leads, Body 14x14mm, Pitch 0.5mm, IPC Medium Density)
footprint STM-LQFP100_L (Thin QFP, 100-Leads, Body 14x14mm, Pitch 0.5mm, IPC High Density)
footprint STM-LQFP100_M (Thin QFP, 100-Leads, Body 14x14mm, Pitch 0.5mm, IPC Low Density)
footprint STM-LQFP100_V (Thin QFP, 100-Leads, Body 14x14mm, Pitch 0.5mm, ST Recommended)
part A pins: 1 PE2 (io) "PE2/TRACECLK,FSMC_A23,ETH_MII_TXD3,EVENTOUT,SPI4_SCK", 2 PE3 (io) "PE3/TRACED0,FSMC_A19,EVENTOUT,SPI4_NSS", 3 PE4 (io) "PE4/TRACED1,FSMC_A20,DCMI_D4,EVENTOUT,SPI4_NSS", 4 PE5 (io) "PE5/TRACED2,FSMC_A21,TIM9_CH1,DCMI_D6,EVENTOUT,SPI4_MISO", 5 PE6 (io) "PE6/TRACED3,FSMC_A22,TIM9_CH2,DCMI_D7,EVENTOUT,SPI4_MOSI", 7 PC13 (io) "PC13/EVENTOUT/RTC_OUT,RTC_TAMP1,RTC_TS", 8 PC14-OSC32_IN(PC14) (io) "PC14-OSC32_IN(PC14)/EVENTOUT/OSC32_IN", 9 PC15-OSC32_OUT(PC15) (io) "PC15-OSC32_OUT(PC15)/EVENTOUT/OSC32_OUT", 12 PH0-OSC_IN(PH0) (io) "PH0-OSC_IN(PH0)/EVENTOUT/OSC_IN", 13 PH1-OSC_OUT(PH1) (io) "PH1-OSC_OUT(PH1)/EVENTOUT/OSC_OUT", 14 NRST (io), 15 PC0 (io) "PC0/OTG_HS_ULPI_STP,EVENTOUT/ADC123_IN10", 16 PC1 (io) "PC1/ETH_MDC,EVENTOUT/ADC123_IN11", 17 PC2 (io) "PC2/SPI2_MISO,OTG_HS_ULPI_DIR,ETH_MII_TXD2,I2S2ext_SD,EVENTOUT/ADC123_IN12", 18 PC3 (io) "PC3/SPI2_MOSI/I2S2_SD,OTG_HS_ULPI_NXT,ETH_MII_TX_CLK,EVENTOUT/ADC123_IN13", 23 PA0-WKUP(PA0) (io) "PA0-WKUP(PA0)/USART2_CTS,UART4_TX,ETH_MII_CRS,TIM2_CH1_ETR,TIM5_CH1,TIM8_ETR,EVENTOUT/ADC123_IN0,WKUP", 24 PA1 (io) "PA1/USART2_RTS,UART4_RX,ETH_RMII_REF_CLK,ETH_MII_RX_CLK,TIM5_CH2,TIMM2_CH2,EVENTOUT/ADC123_IN1", 25 PA2 (io) "PA2/USART2_TX,TIM5_CH3,TIM9_CH1,TIM2_CH3,ETH_MDIO,EVENTOUT/ADC123_IN2", 26 PA3 (io) "PA3/USART2_RX,TIM5_CH4,TIM9_CH2,TIM2_CH4,OTG_HS_ULPI_D0,ETH_MII_COL,EVENTOUT/ADC123_IN3", 29 PA4 (io) "PA4/SPI1_NSS,SPI3_NSS,USART2_CK,DCMI_HSYNC,OTG_HS_SOF,I2S3_WS,EVENTOUT/ADC12_IN4,DAC1_OUT", 30 PA5 (io) "PA5/SPI1_SCK,OTG_HS_ULPI_CK,TIM2_CH1_ETR,TIM8_CH1N,EVENTOUT/ADC12_IN5,DAC2_OUT", 31 PA6 (io) "PA6/SPI1_MISO,TIM8_BKIN,TIM13_CH1,DCMI_PIXCLK,TIM3_CH1,TIM1_BKIN,EVENTOUT/ADC12_IN6", 32 PA7 (io) "PA7/SPI1_MOSI,TIM8_CH1N,TIM14_CH1,TIM3_CH2,ETH_MII_RX_DV,TIM1_CH1N,ETH_RMII_CRS_DV,EVENTOUT/ADC12_IN7", 33 PC4 (io) "PC4/ETH_RMII_RX_D0,ETH_MII_RX_D0,EVENTOUT/ADC12_IN14", 34 PC5 (io) "PC5/ETH_RMII_RX_D1,ETH_MII_RX_D1,EVENTOUT/ADC12_IN15", 35 PB0 (io) "PB0/TIM3_CH3,TIM8_CH2N,OTG_HS_ULPI_D1,ETH_MII_RXD2,TIM1_CH2N,EVENTOUT/ADC12_IN8", 36 PB1 (io) "PB1/TIM3_CH4,TIM8_CH3N,OTG_HS_ULPI_D2,ETH_MII_RXD3,TIM1_CH3N,EVENTOUT/ADC12_IN9", 37 PB2-BOOT1(PB2) (io) "PB2-BOOT1(PB2)/EVENTOUT", 38 PE7 (io) "PE7/FSMC_D4,TIM1_ETR,EVENTOUT,UART7_RX", 39 PE8 (io) "PE8/FSMC_D5,TIM1_CH1N,EVENTOUT,UART7_TX", 40 PE9 (io) "PE9/FSMC_D6,TIM1_CH1,EVENTOUT", 41 PE10 (io) "PE10/FSMC_D7,TIM1_CH2N,EVENTOUT", 42 PE11 (io) "PE11/FSMC_D8,TIM1_CH2,EVENTOUT,SPI4_NSS", 43 PE12 (io) "PE12/FSMC_D9,TIM1_CH3N,EVENTOUT,SPI4_SCK", 44 PE13 (io) "PE13/FSMC_D10,TIM1_CH3,EVENTOUT,SPI4_MISO", 45 PE14 (io) "PE14/FSMC_D11,TIM1_CH4,EVENTOUT,SPI4_MOSI", 46 PE15 (io) "PE15/FSMC_D12,TIM1_BKIN,EVENTOUT", 47 PB10 (io) "PB10/SPI2_SCK/I2S2_CK,I2C2_SCL,USART3_TX,OTG_HS_ULPI_D3,ETH_MII_RX_ER,TIM2_CH3,EVENTOUT", 48 PB11 (io) "PB11/I2C2_SDA,USART3_RX,OTG_HS_ULPI_D4,ETH_RMII_TX_EN,ETH_MII_TX_EN,TIM2_CH4,EVENTOUT", 49 VCAP_1 (power), 51 PB12 (io) "PB12/SPI2_NSS/I2S2_WS,I2C2_SMBA,USART3_CK,TIM1_BKIN,CAN2_RX,OTG_HS_ULPI_D5,ETH_RMII_TXD0,ETH_MII_TXD0,OTG_HS_ID,EVENTOUT", 52 PB13 (io) "PB13/SPI2_SCK/I2S2_CK,USART3_CTS,TIM1_CH1N,CAN2_TX,OTG_HS_ULPI_D6,ETH_RMII_TXD1,ETH_MII_TXD1,EVENTOUT/OTG_HS_VBUS", 53 PB14 (io) "PB14/SPI2_MISO,TIM1_CH2N,TIM12_CH1,OTG_HS_DM,USART3_RTS,TIM8_CH2N,I2S2ext_SD,EVENTOUT", 54 PB15 (io) "PB15/SPI2_MOSI/I2S2_SD,TIM1_CH3N,TIM8_CH3N,TIM12_CH2,OTG_HS_DP,EVENTOUT,RTC_REFIN", 55 PD8 (io) "PD8/FSMC_D13,USART3_TX,EVENTOUT", 56 PD9 (io) "PD9/FSMC_D14,USART3_RX,EVENTOUT", 57 PD10 (io) "PD10/FSMC_D15,USART3_CK,EVENTOUT", 58 PD11 (io) "PD11/FSMC_CLE,FSMC_A16,USART3_CTS,EVENTOUT", 59 PD12 (io) "PD12/FSMC_ALE,FSMC_A17,TIM4_CH1,USART3_RTS,EVENTOUT", 60 PD13 (io) "PD13/FSMC_A18,TIM4_CH2,EVENTOUT", 61 PD14 (io) "PD14/FSMC_D0,TIM4_CH3,EVENTOUT", 62 PD15 (io) "PD15/FSMC_D1,TIM4_CH4,EVENTOUT", 63 PC6 (io) "PC6/I2S2_MCK,TIM8_CH1,SDIO_D6,USART6_TX,DCMI_D0,TIM3_CH1,EVENTOUT", 64 PC7 (io) "PC7/I2S3_MCK,TIM8_CH2,SDIO_D7,USART6_RX,DCMI_D1,TIM3_CH2,EVENTOUT", 65 PC8 (io) "PC8/TIM8_CH3,SDIO_D0,TIM3_CH3,USART6_CK,DCMI_D2,EVENTOUT", 66 PC9 (io) "PC9/I2S_CKIN,MCO2,TIM8_CH4,SDIO_D1,I2C3_SDA,DCMI_D3,TIM3_CH4,EVENTOUT", 67 PA8 (io) "PA8/MCO1,USART1_CK,TIM1_CH1,I2C3_SCL,OTG_FS_SOF,EVENTOUT", 68 PA9 (io) "PA9/USART1_TX,TIM1_CH2,I2C3_SMBA,DCMI_D0,EVENTOUT/OTG_FS_VBUS", 69 PA10 (io) "PA10/USART1_RX,TIM1_CH3,OTG_FS_ID,DCMI_D1,EVENTOUT", 70 PA11 (io) "PA11/USART1_CTS,CAN1_RX,TIM1_CH4,OTG_FS_DM,EVENTOUT", 71 PA12 (io) "PA12/USART1_RTS,CAN1_TX,TIM1_ETR,OTG_FS_DP,EVENTOUT", 72 PA13(JTMS-SWDIO) (io) "PA13(JTMS-SWDIO)/JTMS-SWDIO,EVENTOUT", 73 VCAP_2 (power), 76 PA14(JTCK-SWCLK) (io) "PA14(JTCK-SWCLK)/JTCK-SWCLK,EVENTOUT", 77 PA15(JTDI) (io) "PA15(JTDI)/JTDI,SPI3_NSS,I2S3_WS,TIM2_CH1_ETR,SPI1_NSS,EVENTOUT", 78 PC10 (io) "PC10/SPI3_SCK/I2S3_CK,UART4_TX,SDIO_D2,DCMI_D8,USART3_TX,EVENTOUT", 79 PC11 (io) "PC11/UART4_RX,SPI3_MISO,SDIO_D3,DCMI_D4,USART3_RX,I2S3ext_SD,EVENTOUT", 80 PC12 (io) "PC12/UART5_TX,SDIO_CK,DCMI_D9,SPI3_MOSI,I2S3_SD,USART3_CK,EVENTOUT", 81 PD0 (io) "PD0/FSMC_D2,CAN1_RX,EVENTOUT", 82 PD1 (io) "PD1/FSMC_D3,CAN1_TX,EVENTOUT", 83 PD2 (io) "PD2/TIM3_ETR,UART5_RX,SDIO_CMD,DCMI_D11,EVENTOUT", 84 PD3 (io) "PD3/FSMC_CLK,USART2_CTS,EVENTOUT,SPI2_SCK,I2S2_CK,DCMI_D5", 85 PD4 (io) "PD4/FSMC_NOE,USART2_RTS,EVENTOUT", 86 PD5 (io) "PD5/FSMC_NWE,USART2_TX,EVENTOUT", 87 PD6 (io) "PD6/FSMC_NWAIT,USART2_RX,EVENTOUT,SPI3_MOSI,I2S3_MOSI,DCMI_D10", 88 PD7 (io) "PD7/USART2_CK,FSMC_NE1,FSMC_NCE2,EVENTOUT", 89 PB3(JTDO/TRACESWO) (io) "PB3(JTDO/TRACESWO)/JTDO/TRACESWO,SPI3_SCK/I2S3_CK,TIM2_CH2,SPI1_SCK,EVENTOUT", 90 PB4(NJTRST) (io) "PB4(NJTRST)/NJTRST,SPI3_MISO,TIM3_CH1,SPI1_MISO,I2S3ext_SD,EVENTOUT", 91 PB5 (io) "PB5/I2C1_SMBA,CAN2_RX,OTG_HS_ULPI_D7,ETH_PPS_OUT,TIM3_CH2,SPI1_MOSI,SPI3_MOSI,DCMI_D10,I2S3_SD,EVENTOUT", 92 PB6 (io) "PB6/I2C1_SCL,TIM4_CH1,CAN2_TX,DCMI_D5,USART1_TX,EVENTOUT", 93 PB7 (io) "PB7/I2C1_SDA,FSMC_NL(NADV),DCMI_VSYNC,USART1_RX,TIM4_CH2,EVENTOUT", 94 BOOT0 (in) "BOOT0/VPP", 95 PB8 (io) "PB8/TIM4_CH3,SDIO_D4,TIM10_CH1,DCMI_D6,ETH_MII_TXD3,I2C1_SCL,CAN1_RX,EVENTOUT", 96 PB9 (io) "PB9/SPI2_NSS/I2S2_WS,TIM4_CH4,TIM11_CH1,SDIO_D5,DCMI_D7,I2C1_SDA,CAN1_TX,EVENTOUT", 97 PE0 (io) "PE0/TIM4_ETR,FSMC_NBL0,DCMI_D2,EVENTOUT,UART8_RX", 98 PE1 (io) "PE1/FSMC_NBL1,DCMI_D3,EVENTOUT,UART8_TX"
part B pins: 6 VBAT (power), 10 VSS (power), 11 VDD (power), 19 VDD (power), 20 VSSA (power), 21 VREF+ (power), 22 VDDA (power), 27 VSS (power), 28 VDD (power), 50 VDD (power), 74 VSS (power), 75 VDD (power), 99 VSS (power), 100 VDD (power)

## TEST POINT
designator RW_SW?
TEST
footprint TESTP
pins: 1

## TL072
designator IC?, comment LM2904M/TR
footprint LM2904M/TR
part A pins: 1, 2, 3, 4, 8
part B pins: 5, 6, 7

## TL072_1
designator IC?, comment TL072ID
footprint SOP8
part A pins: 1, 2, 3, 4, 8
part B pins: 5, 6, 7

## TL431-SO8
designator TL?, comment TL431  (value not drawn)
footprint TL431
pins: 1 K, 2 A, 3 A, 4 NC, 5 NC, 6 A, 7 A, 8 RV

## TP
designator TP_VSS?
footprint TESTP
pins: 1

## TRANS1
designator L?, comment 共模电感
UF16 22mH 1.5A 12.5*10
footprint TRANS
pins: 1, 2, 3, 4

## ULN2003
designator IC?, comment ULN2003A
footprint SO16
pins: 1 1B, 2 2B, 3 3B, 4 4B, 5 5B, 6 6B, 7 7B, 8 E, 9 COM, 10 7C, 11 6C, 12 5C, 13 4C, 14 5C, 15 6C, 16 7C

## Y
designator *
pins: 1, 2, 3, 4

## 语音模块
designator P?
DY-SV17F
footprint YYMK (Connector; Header; 6 Position)
pins: 1 IO0/TX, 2 IO1/RX, 3 IO2, 4 IO3, 5 IO4/ONE_LINE, 6 IO5, 7 IO6, 8 IO7, 9 GND, 10 CON1, 11 CON2, 12 CON3/BUSY, 13 V5, 14 V33, 15 DACR, 16 DACL, 17 SPK-, 18 SPK+